# Altium schematic symbol library Conn,Spring,Piston,8Pos,Thru.Schlib: 1 symbol
Pins are listed as number, name and electrical type; pins without a type are passive.

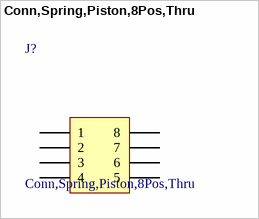
[diagram p0: symbol Conn,Spring,Piston,8Pos,Thru]

## Conn,Spring,Piston,8Pos,Thru
designator J?
8 Position Spring Piston Connector Through Hole
pins: 1, 2, 3, 4, 5, 6, 7, 8